# Altium schematic symbol library SCH - MEMORY - MICROCHIP FLASH SPI 8PIN.SCHLIB: 2 symbols
Pins are listed as number, name and electrical type; pins without a type are passive.

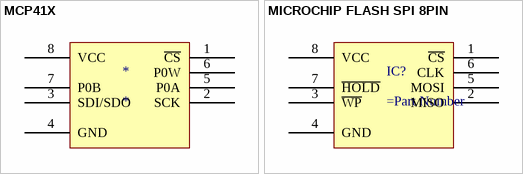
[diagram p0: symbols MCP41X to MICROCHIP FLASH SPI 8PIN]

## MCP41X
designator *
pins: 1 ~{CS}, 2 SCK, 3 SDI/SDO, 4 GND, 5 P0A, 6 P0W, 7 P0B, 8 VCC

## MICROCHIP FLASH SPI 8PIN
designator IC?
pins: 1 ~{CS}, 2 MISO, 3 ~{WP}, 4 GND, 5 MOSI, 6 CLK, 7 ~{HOLD}, 8 VCC